# Altium footprint library AMIDA7.PcbLib: 36 footprints (part 2 of 3)
Each footprint in its own frame and in the unit in brackets; x right, y up, seen from the top. Pads: shape width x height; smd on the part's side, far side on the other; paste and mask are expansions set on the pad; w line width, h text height; cw(c..) or ccw(c..) is an arc to the next point about the centre after c.
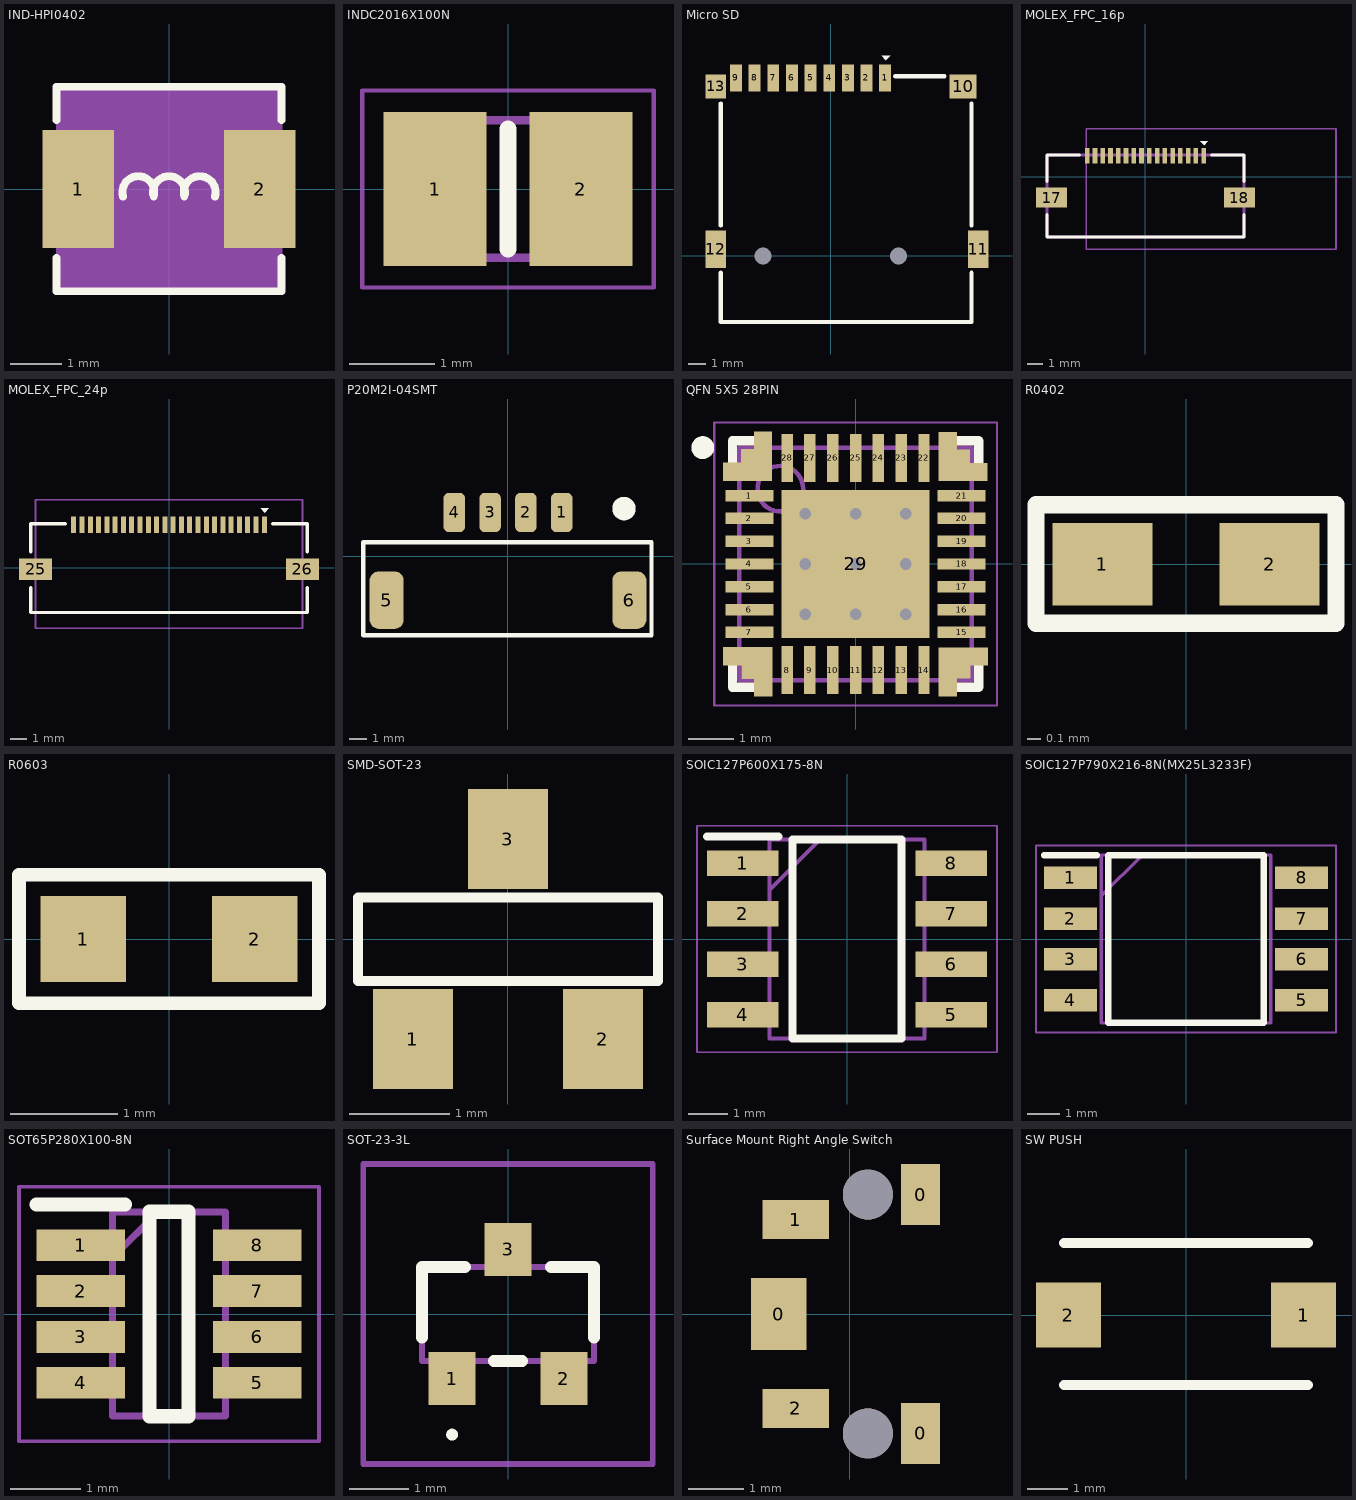
[diagram p1: the footprints below, top view; thin cyan lines are the x and y axes]

## IND-HPI0402 [mil] "HPI 04 SERIES"
pads (2):
  rect 55x91 smd: 1(-69.98,0) 2(69.98,0)
Top Overlay:
  lines w6: -86.61,-53.15 -86.61,-78.74 86.61,-78.74 86.61,-53.15 ; -86.61,53.15 -86.61,78.74 86.61,78.74 86.61,53.15 ; -35.43,-5.91 cw(c-23.62,-2.46) -11.81,-5.91 cw(c0,-2.46) 11.81,-5.91 cw(c23.62,-2.46) 35.43,-5.91
Top 3D Body:
  region: -86.61,78.74 -86.61,-78.74 86.61,-78.74 86.61,78.74
Mechanical 69:
  dashed: -86.61,-78.74 -86.61,78.74 86.61,78.74 86.61,-78.74
Mechanical 85:
  text "1" at -73.98,0 h10
  text "2" at 65.98,0 h10
Top Assembly:
  lines w1: -86.61,-78.74 86.61,-78.74 86.61,78.74 -86.61,78.74 -86.61,-78.74
Mechanical 88:
  text "2mm" at -25.59,-37.4 h25
3D body: height 78.74, standoff 0, extent -86.61,-78.74 86.61,78.74

## INDC2016X100N [mm]
pads (2):
  rect 1.2x1.8 smd: 1(-0.85,0) 2(0.85,0)
Top Overlay:
  lines w0.2: 0,-0.7 0,0.7
Mechanical 15:
  lines w0.1: -1,-0.8 1,-0.8 1,0.8 -1,0.8 -1,-0.8
Mechanical 20:
  lines w0.05: -1.7,-1.15 1.7,-1.15 1.7,1.15 -1.7,1.15 -1.7,-1.15
3D body "TFM201610ALMA1R0MTAA.stp": height 1, standoff 0, extent -1,-0.8 1,0.8

## Micro SD [mm]
pads (15):
  round 0 hole 1 mask+0.102: 0(-4,0)
  rect 0.7x1.6 smd: 1(3.2,10.5) 2(2.1,10.5) 3(1,10.5) 4(-0.1,10.5) 5(-1.2,10.5) 6(-2.3,10.5) 7(-3.4,10.5) 8(-4.5,10.5) 9(-5.6,10.5)
  rect 1.6x1.4 smd: 10(7.8,10)
  rect 1.2x2.2 smd: 11(8.7,0.4) 12(-6.8,0.4)
  rect 1.2x1.4 smd: 13(-6.8,10)
  round 0 hole 1 paste+0 mask+0.102: e(4,0)
Top Layer:
  lines w0.254: -6.9,10 -6.8,10
Top Overlay:
  region: 3.25,11.55 3.5,11.8 3,11.8
  lines w0.254: -6.5,-1 -6.5,-3.9 -0.1,-3.9 ; -6.5,1.8 -6.5,9 ; 0,-3.9 8.3,-3.9 8.3,-1 ; 3.8,10.6 6.7,10.6 ; 8.3,1.8 8.3,9

## MOLEX_FPC_16p [mm] "5051101692"
pads (18):
  rect 0.3x1 smd: 1(3.75,1.35) 2(3.25,1.35) 3(2.75,1.35) 4(2.25,1.35) 5(1.75,1.35) 6(1.25,1.35) 7(0.75,1.35) 8(0.25,1.35) 9(-0.25,1.35) 10(-0.75,1.35) 11(-1.25,1.35) 12(-1.75,1.35) 13(-2.25,1.35) 14(-2.75,1.35) 15(-3.25,1.35) 16(-3.75,1.35)
  rect 2x1.3 smd: 17(-6.05,-1.35) 18(6.05,-1.35)
Top Overlay:
  region: 3.775,2.025 4.025,2.275 3.525,2.275
  lines w0.2: -6.35,-2.447 -6.35,-3.9 6.35,-3.9 6.35,-2.447 ; -6.35,-0.305 -6.35,1.4 -4.252,1.4 ; 4.252,1.4 6.35,1.4 6.35,-0.305
Mechanical 15:
  lines w0.2: -6.35,-3.9 6.35,-3.9 6.35,1.4 -6.35,1.4 -6.35,-3.9
Mechanical 20:
  lines w0.1: -3.825,-4.675 -3.825,3.075 12.275,3.075 12.275,-4.675 -3.825,-4.675
3D body "505110-1692.stp": height 1.88, standoff -0.02, extent -6.775,-3.85 6.725,1.45

## MOLEX_FPC_24p [mm] "5051102491"
pads (26):
  rect 0.3x1 smd: 1(5.75,2.6) 2(5.25,2.6) 3(4.75,2.6) 4(4.25,2.6) 5(3.75,2.6) 6(3.25,2.6) 7(2.75,2.6) 8(2.25,2.6) 9(1.75,2.6) 10(1.25,2.6) 11(0.75,2.6) 12(0.25,2.6) 13(-0.25,2.6) 14(-0.75,2.6) 15(-1.25,2.6) 16(-1.75,2.6) 17(-2.25,2.6) 18(-2.75,2.6) 19(-3.25,2.6) 20(-3.75,2.6) 21(-4.25,2.6) 22(-4.75,2.6) 23(-5.25,2.6) 24(-5.75,2.6)
  rect 2x1.3 smd: 25(-8.05,-0.1) 26(8.05,-0.1)
Top Overlay:
  region: 5.775,3.325 6.025,3.575 5.525,3.575
  lines w0.2: -8.35,-1.197 -8.35,-2.7 8.35,-2.7 ; -8.35,0.945 -8.35,2.65 -6.252,2.65 ; 6.252,2.65 8.35,2.65 8.35,0.945 ; 8.35,-2.65 8.35,-1.197
Mechanical 20:
  lines w0.1: -8.05,-3.65 -8.05,4.1 8.05,4.1 8.05,-3.65 -8.05,-3.65
3D body "505110-2491.stp": height 1.88, standoff -0.02, extent -8.75,-2.5 8.75,2.8

## P20M2I-04SMT [mm]
pads (6):
  rrect50% 1.2x2.2 smd: 1(3,2.45) 2(1,2.45) 3(-1,2.45) 4(-3,2.45)
  rrect50% 1.9x3.2 smd: 5(-6.78,-2.45) 6(6.78,-2.45)
Top Overlay:
  circle w1: c6.477,2.667 r0.152
  lines w0.25: -8.08,-4.408 8.017,-4.408 8.017,0.799 -8.08,0.799 -8.08,-4.408

## QFN 5X5 28PIN [mm] "QFN, 28-Leads, Body 5.00x5.00mm, Pitch 0.50mm, Thermal Pad 3.25x3.25mm, IPC Medium Density"
height 0.75
pads (41):
  rect 1.05x0.25 smd: 1(-2.325,1.5) 2(-2.325,1) 3(-2.325,0.5) 4(-2.325,0) 5(-2.325,-0.5) 6(-2.325,-1) 7(-2.325,-1.5) 15(2.325,-1.5) 16(2.325,-1) 17(2.325,-0.5) 18(2.325,0) 19(2.325,0.5) 20(2.325,1) 21(2.325,1.5)
  rect 0.25x1.05 smd: 8(-1.5,-2.325) 9(-1,-2.325) 10(-0.5,-2.325) 11(0,-2.325) 12(0.5,-2.325) 13(1,-2.325) 14(1.5,-2.325) 22(1.5,2.325) 23(1,2.325) 24(0.5,2.325) 25(0,2.325) 26(-0.5,2.325) 27(-1,2.325) 28(-1.5,2.325)
  rect 3.25x3.25 smd: 29(0,0)
  rect 1.075x0.4 smd: ""(-2.364,2.023) ""(-2.362,-2.024) ""(2.357,2.017) ""(2.361,-2.025)
  rect 0.3x0.3 smd: ""(-2.362,2.366) ""(-2.352,-2.367) ""(2.36,2.356) ""(2.364,-2.365)
  rect 0.4x1.075 smd: ""(-2.026,2.361) ""(-2.024,-2.362) ""(2.019,2.355) ""(2.023,-2.363)
via 1.1,-1.1 diameter 0.508 hole 0.254
via 0,-1.1 diameter 0.508 hole 0.254
via -1.1,-1.1 diameter 0.508 hole 0.254
via 1.1,0 diameter 0.508 hole 0.254
via 0,0 diameter 0.508 hole 0.254
via -1.1,0 diameter 0.508 hole 0.254
via 1.1,1.1 diameter 0.508 hole 0.254
via 0,1.1 diameter 0.508 hole 0.254
via -1.1,1.1 diameter 0.508 hole 0.254
Top Overlay:
  circle w0.25: c-3.35,2.55 r0.125
  lines w0.2: -2.7,-2.025 -2.7,-2.7 -2.025,-2.7 ; -2.7,2.025 -2.7,2.7 -2.025,2.7 ; 2.025,-2.7 2.7,-2.7 2.7,-2.025 ; 2.025,2.7 2.7,2.7 2.7,2.025
Mechanical 13:
  circle w0.1: c-1.65,1.65 r0.5
  lines w0.1: -2.55,-2.55 2.55,-2.55 2.55,2.55 -2.55,2.55 -2.55,-2.55
Mechanical 15:
  lines w0.05: -3.1,-3.1 3.1,-3.1 3.1,3.1 -3.1,3.1 -3.1,-3.1
  lines w0.1: -0.5,0 0.5,0 ; 0,-0.5 0,0.5
3D body "QFN50P500X500X75_HS-29N.step": height 0.75, standoff 0, extent -2.551,-2.551 2.551,2.551

## R0402 [mm] "RES_0402"
height 0.55
pads (2):
  rect 0.73x0.6 smd: 1(-0.608,0) 2(0.608,0)
Top Overlay:
  lines w0.127: -1.092,-0.432 1.092,-0.432 1.092,0.434 0.585,0.434 -0.585,0.434 -1.092,0.434 -1.092,-0.432
3D body "WR04X000PTL.stp": height 0.4, standoff 0, extent -0.5,-0.25 0.5,0.25

## R0603 [mm] "RES_1609-0603"
height 0.55
pads (2):
  rect 0.8x0.8 smd: 1(-0.8,0) 2(0.8,0)
Top Overlay:
  lines w0.127: -1.4,-0.6 1.4,-0.6 1.4,0.6 -1.4,0.6 -1.4,-0.6
3D body "RES_1609-0603.STEP": height 0.56, standoff 0, extent -0.85,-0.4 0.85,0.4

## SMD-SOT-23 [mm]
pads (3):
  rect 0.8x1 smd: 1(-0.95,-1) 2(0.95,-1) 3(0,1)
Top Overlay:
  lines w0.1: -1.5,-0.42 1.5,-0.42 1.5,0.414 -1.5,0.414 -1.5,-0.42
3D body "PJA3415A-AU_R1_000A1.stp": height 1.1, standoff 0, extent -1.46,-1.2 1.46,1.2

## SOIC127P600X175-8N [mm] "150mil"
pads (8):
  rect 1.8x0.65 smd: 1(-2.625,1.905) 2(-2.625,0.635) 3(-2.625,-0.635) 4(-2.625,-1.905) 5(2.625,-1.905) 6(2.625,-0.635) 7(2.625,0.635) 8(2.625,1.905)
Top Overlay:
  lines w0.2: -3.525,2.58 -1.725,2.58 ; -1.375,-2.5 1.375,-2.5 1.375,2.5 -1.375,2.5 -1.375,-2.5
Mechanical 15:
  lines w0.1: -1.95,1.23 -0.68,2.5 ; -1.95,-2.5 1.95,-2.5 1.95,2.5 -1.95,2.5 -1.95,-2.5
Mechanical 20:
  lines w0.05: -3.775,-2.85 3.775,-2.85 3.775,2.85 -3.775,2.85 -3.775,-2.85
3D body "SH8MB5TB1.stp": height 1.65, standoff 0, extent -3,-2.5 3,2.5

## SOIC127P790X216-8N(MX25L3233F) [mm] "200mil"
pads (8):
  rect 1.65x0.7 smd: 1(-3.6,1.905) 2(-3.6,0.635) 3(-3.6,-0.635) 4(-3.6,-1.905) 5(3.6,-1.905) 6(3.6,-0.635) 7(3.6,0.635) 8(3.6,1.905)
Top Overlay:
  lines w0.2: -4.425,2.605 -2.775,2.605 ; -2.425,-2.615 2.425,-2.615 2.425,2.615 -2.425,2.615 -2.425,-2.615
Mechanical 15:
  lines w0.1: -2.64,1.345 -1.37,2.615 ; -2.64,-2.615 2.64,-2.615 2.64,2.615 -2.64,2.615 -2.64,-2.615
Mechanical 20:
  lines w0.05: -4.675,-2.915 4.675,-2.915 4.675,2.915 -4.675,2.915 -4.675,-2.915

## SOT65P280X100-8N [mm]
pads (8):
  rect 1.25x0.45 smd: 1(-1.25,0.975) 2(-1.25,0.325) 3(-1.25,-0.325) 4(-1.25,-0.975) 5(1.25,-0.975) 6(1.25,-0.325) 7(1.25,0.325) 8(1.25,0.975)
Top Overlay:
  lines w0.2: -1.875,1.55 -0.625,1.55 ; -0.275,-1.448 -0.275,1.448 0.275,1.448 0.275,-1.448 -0.275,-1.448
Mechanical 15:
  lines w0.1: -0.8,0.798 -0.15,1.448 ; -0.8,-1.448 -0.8,1.448 0.8,1.448 0.8,-1.448 -0.8,-1.448
Mechanical 20:
  lines w0.05: -2.125,-1.8 -2.125,1.8 2.125,1.8 2.125,-1.8 -2.125,-1.8

## SOT-23-3L [mm]
pads (3):
  rect 0.8x0.9 smd: 1(-0.95,-1.1) 2(0.95,-1.1) 3(0,1.1)
Top Overlay:
  lines w0.1: -0.95,-2.1 ccw(c-0.95,-2.05) -0.95,-2 ccw(c-0.95,-2.05) -0.95,-2.1
  lines w0.2: -1.46,-0.4 -1.46,0.8 -0.73,0.8 ; -0.243,-0.8 0.243,-0.8 ; 0.73,0.8 1.46,0.8 1.46,-0.4
Mechanical 15:
  lines w0.1: -1.46,-0.8 -1.46,0.8 1.46,0.8 1.46,-0.8 -1.46,-0.8
Mechanical 20:
  lines w0.1: -2.46,-2.55 -2.46,2.55 2.46,2.55 2.46,-2.55 -2.46,-2.55
3D body "MC6225K3-2.5-TP.stp": height 1.16, standoff -0.03, extent -1.45,-1.389 1.45,1.411

## Surface Mount Right Angle Switch [mm]
pads (7):
  rect 1x1.3 smd: 0(-1.275,0)
  rect 0.7x1.1 smd: 0(1.275,-2.15) 0(1.275,2.15)
  rect 1.2x0.7 smd: 1(-0.975,1.7) 2(-0.975,-1.7)
  round 0.9 hole 0.9: ""(0.325,-2.15) ""(0.325,2.15)

## SW PUSH [mm]
pads (2):
  rect 1.6x1.6 smd: 1(2.9,0) 2(-2.9,0)
Top Overlay:
  lines w0.254: -3,-1.725 3,-1.725 ; -3,1.775 3,1.775